# Altium integrated library TI_Logic_Specialty_Logic.IntLib: 2504 symbols (part 31 of 81)
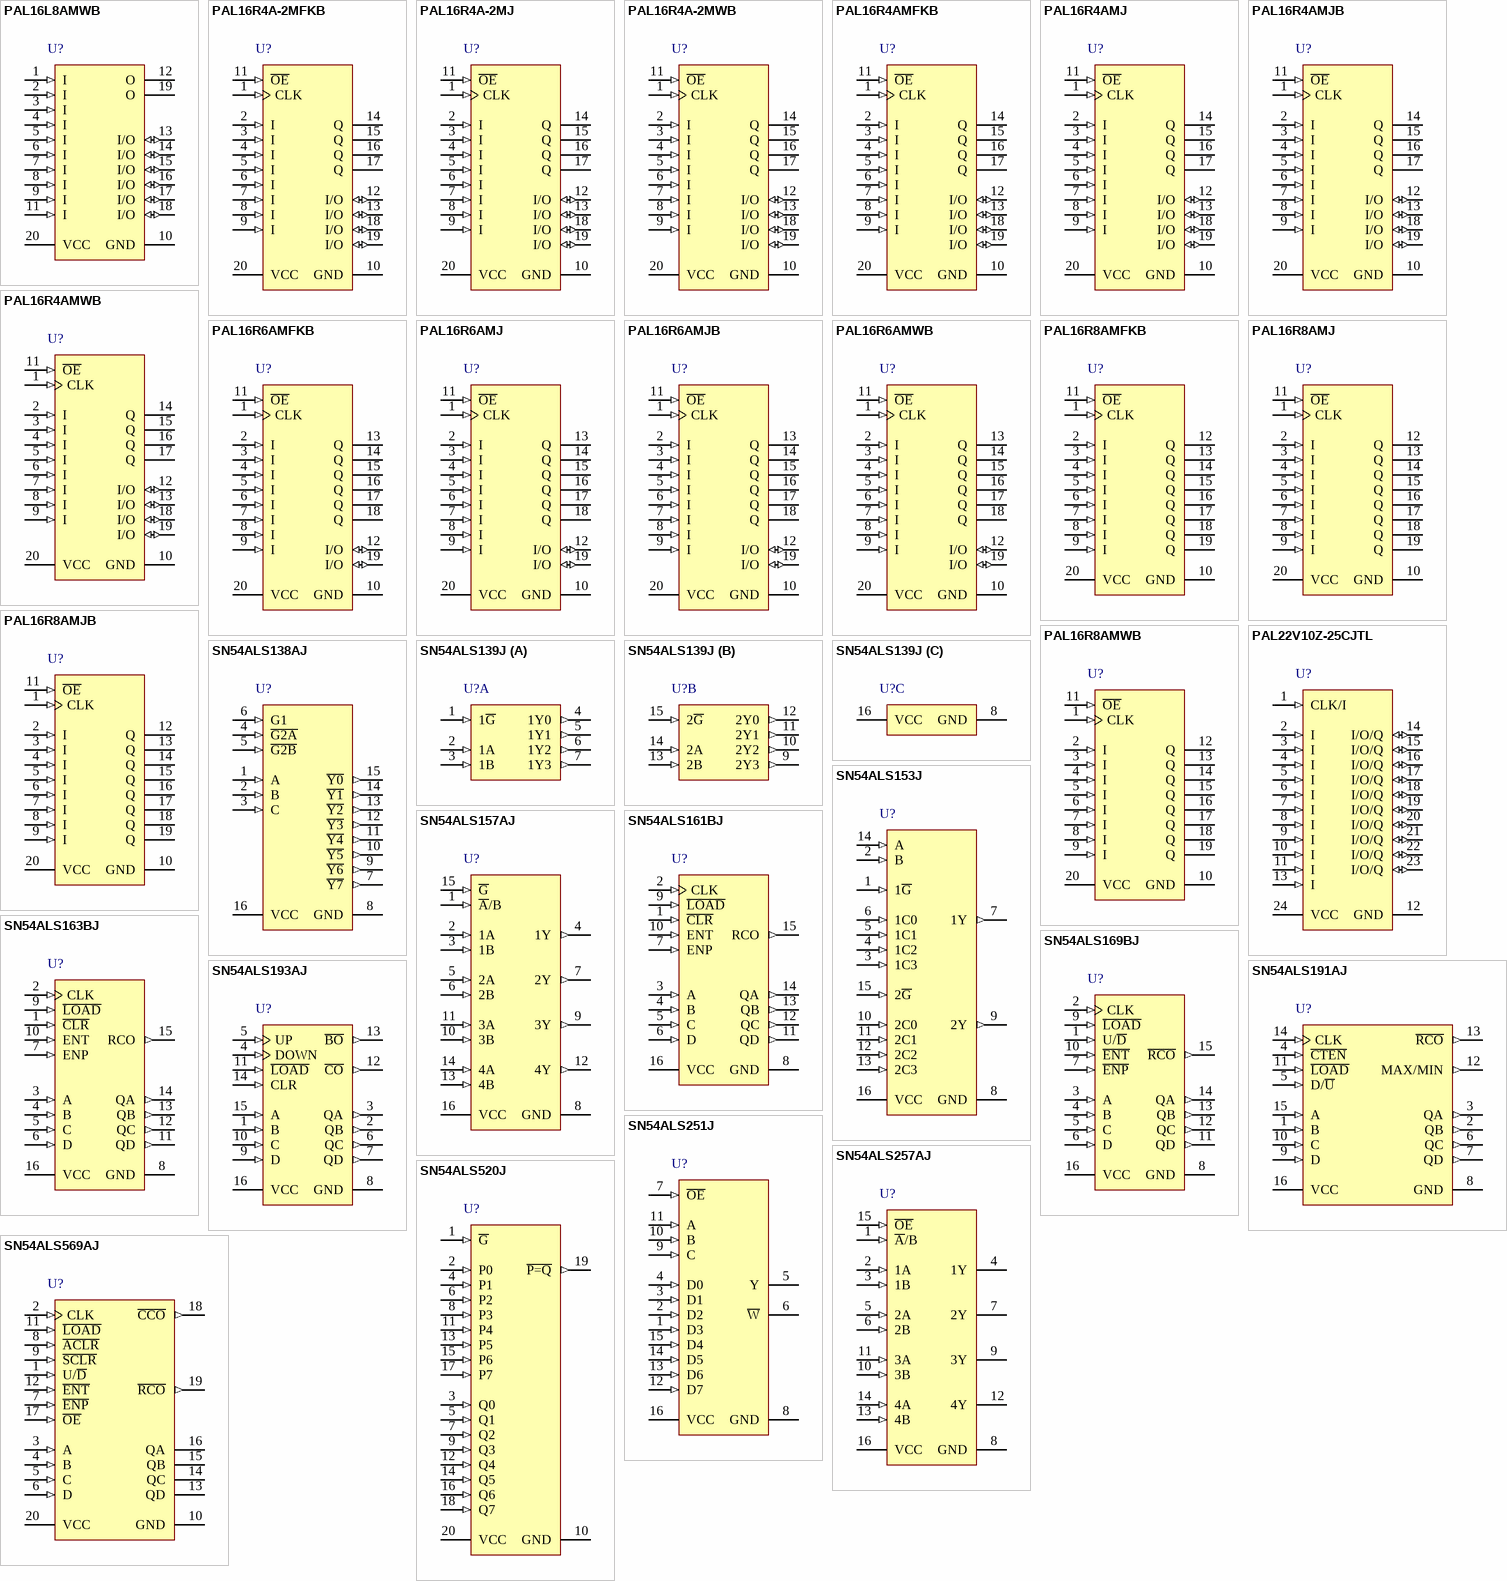
[diagram p134: symbols PAL16L8AMWB to SN54ALS569AJ]

## PAL16R4A-2MJ
designator U?
Standard High-Speed PAL<R> Circuits, J0020A, TUBE; Generic Part Number: PAL16R4A-2M; Manufacturer: Texas Instruments; PartNumber: PAL16R4A-2MJ; Voltage Node(Nom)(V): 5; Rating: Military; DatasheetVersion: SRPS016; PackageReference: J0020A; Operating Temperature Range(C): -55 to 125; ComponentLink1Description: Manufacturer URL; ComponentLink1URL: http://www.ti.com/; ComponentLink2Description: Datasheet; ComponentLink2URL: http://www.ti.com/lit/ds/symlink/pal16r4a-2m.pdf
footprint J0020A (DIP, 20-Leads, Body 26.9x7.2mm, Pitch 2.54mm)
pins: 1 CLK (in), 2 I (in), 3 I (in), 4 I (in), 5 I (in), 6 I (in), 7 I (in), 8 I (in), 9 I (in), 10 GND (power), 11 ~{OE} (in), 12 I/O (io), 13 I/O (io), 14 Q (hiz), 15 Q (hiz), 16 Q (hiz), 17 Q (hiz), 18 I/O (io), 19 I/O (io), 20 VCC (power)

## PAL16R4A-2MWB
designator U?
Standard High-Speed PAL<R> Circuits, W0020A, TUBE; Generic Part Number: PAL16R4A-2M; Manufacturer: Texas Instruments; PartNumber: PAL16R4A-2MWB; Voltage Node(Nom)(V): 5; Rating: Military; DatasheetVersion: SRPS016; PackageReference: W0020A; Operating Temperature Range(C): -55 to 125; ComponentLink1Description: Manufacturer URL; ComponentLink1URL: http://www.ti.com/; ComponentLink2Description: Datasheet; ComponentLink2URL: http://www.ti.com/lit/ds/symlink/pal16r4a-2m.pdf
footprint W0020A_N (CFP, 20-Leads, Body 13.72x7.62mm, Pitch 1.27mm, IPC Medium Density)
footprint W0020A_M (CFP, 20-Leads, Body 13.72x7.62mm, Pitch 1.27mm, IPC Low Density)
footprint W0020A_L (CFP, 20-Leads, Body 13.72x7.62mm, Pitch 1.27mm, IPC High Density)
pins: 1 CLK (in), 2 I (in), 3 I (in), 4 I (in), 5 I (in), 6 I (in), 7 I (in), 8 I (in), 9 I (in), 10 GND (power), 11 ~{OE} (in), 12 I/O (io), 13 I/O (io), 14 Q (hiz), 15 Q (hiz), 16 Q (hiz), 17 Q (hiz), 18 I/O (io), 19 I/O (io), 20 VCC (power)

## PAL16R4AMFKB
designator U?
Standard High-Speed PAL<R> Circuits, FK0020A, TUBE; Generic Part Number: PAL16R4AM; Manufacturer: Texas Instruments; PartNumber: PAL16R4AMFKB; Voltage Node(Nom)(V): 5; Rating: Military; DatasheetVersion: SRPS016; PackageReference: FK0020A; Operating Temperature Range(C): -55 to 125; Code_JEDEC: MS-004; ComponentLink1Description: Manufacturer URL; ComponentLink1URL: http://www.ti.com/; ComponentLink2Description: Datasheet; ComponentLink2URL: http://www.ti.com/lit/ds/symlink/pal16r4am.pdf; ComponentLink3Description: Package Specification; ComponentLink3URL: http://www.ti.com/lit/ml/mlcc006d/mlcc006d.pdf
footprint FK0020A_N (LCC, 20-Leads, Body 8.9x8.9mm, Pitch 1.27mm, IPC Medium Density)
footprint FK0020A_M (LCC, 20-Leads, Body 8.9x8.9mm, Pitch 1.27mm, IPC Low Density)
footprint FK0020A_L (LCC, 20-Leads, Body 8.9x8.9mm, Pitch 1.27mm, IPC High Density)
pins: 1 CLK (in), 2 I (in), 3 I (in), 4 I (in), 5 I (in), 6 I (in), 7 I (in), 8 I (in), 9 I (in), 10 GND (power), 11 ~{OE} (in), 12 I/O (io), 13 I/O (io), 14 Q (hiz), 15 Q (hiz), 16 Q (hiz), 17 Q (hiz), 18 I/O (io), 19 I/O (io), 20 VCC (power)

## PAL16R4AMJ
designator U?
Standard High-Speed PAL<R> Circuits, J0020A, TUBE; Generic Part Number: PAL16R4AM; Manufacturer: Texas Instruments; PartNumber: PAL16R4AMJ; Voltage Node(Nom)(V): 5; Rating: Military; DatasheetVersion: SRPS016; PackageReference: J0020A; Operating Temperature Range(C): -55 to 125; ComponentLink1Description: Manufacturer URL; ComponentLink1URL: http://www.ti.com/; ComponentLink2Description: Datasheet; ComponentLink2URL: http://www.ti.com/lit/ds/symlink/pal16r4am.pdf
footprint J0020A (DIP, 20-Leads, Body 26.9x7.2mm, Pitch 2.54mm)
pins: 1 CLK (in), 2 I (in), 3 I (in), 4 I (in), 5 I (in), 6 I (in), 7 I (in), 8 I (in), 9 I (in), 10 GND (power), 11 ~{OE} (in), 12 I/O (io), 13 I/O (io), 14 Q (hiz), 15 Q (hiz), 16 Q (hiz), 17 Q (hiz), 18 I/O (io), 19 I/O (io), 20 VCC (power)

## PAL16R4AMJB
designator U?
Standard High-Speed PAL<R> Circuits, J0020A, TUBE; Generic Part Number: PAL16R4AM; Manufacturer: Texas Instruments; PartNumber: PAL16R4AMJB; Voltage Node(Nom)(V): 5; Rating: Military; DatasheetVersion: SRPS016; PackageReference: J0020A; Operating Temperature Range(C): -55 to 125; ComponentLink1Description: Manufacturer URL; ComponentLink1URL: http://www.ti.com/; ComponentLink2Description: Datasheet; ComponentLink2URL: http://www.ti.com/lit/ds/symlink/pal16r4am.pdf
footprint J0020A (DIP, 20-Leads, Body 26.9x7.2mm, Pitch 2.54mm)
pins: 1 CLK (in), 2 I (in), 3 I (in), 4 I (in), 5 I (in), 6 I (in), 7 I (in), 8 I (in), 9 I (in), 10 GND (power), 11 ~{OE} (in), 12 I/O (io), 13 I/O (io), 14 Q (hiz), 15 Q (hiz), 16 Q (hiz), 17 Q (hiz), 18 I/O (io), 19 I/O (io), 20 VCC (power)

## PAL16R4AMWB
designator U?
Standard High-Speed PAL<R> Circuits, W0020A, TUBE; Generic Part Number: PAL16R4AM; Manufacturer: Texas Instruments; PartNumber: PAL16R4AMWB; Voltage Node(Nom)(V): 5; Rating: Military; DatasheetVersion: SRPS016; PackageReference: W0020A; Operating Temperature Range(C): -55 to 125; ComponentLink1Description: Manufacturer URL; ComponentLink1URL: http://www.ti.com/; ComponentLink2Description: Datasheet; ComponentLink2URL: http://www.ti.com/lit/ds/symlink/pal16r4am.pdf
footprint W0020A_N (CFP, 20-Leads, Body 13.72x7.62mm, Pitch 1.27mm, IPC Medium Density)
footprint W0020A_M (CFP, 20-Leads, Body 13.72x7.62mm, Pitch 1.27mm, IPC Low Density)
footprint W0020A_L (CFP, 20-Leads, Body 13.72x7.62mm, Pitch 1.27mm, IPC High Density)
pins: 1 CLK (in), 2 I (in), 3 I (in), 4 I (in), 5 I (in), 6 I (in), 7 I (in), 8 I (in), 9 I (in), 10 GND (power), 11 ~{OE} (in), 12 I/O (io), 13 I/O (io), 14 Q (hiz), 15 Q (hiz), 16 Q (hiz), 17 Q (hiz), 18 I/O (io), 19 I/O (io), 20 VCC (power)

## PAL16R6AMFKB
designator U?
Standard High-Speed PAL<R> Circuits, FK0020A, TUBE; Generic Part Number: PAL16R6AM; Manufacturer: Texas Instruments; PartNumber: PAL16R6AMFKB; Voltage Node(Nom)(V): 5; Rating: Military; DatasheetVersion: SRPS016; PackageReference: FK0020A; Operating Temperature Range(C): -55 to 125; Code_JEDEC: MS-004; ComponentLink1Description: Manufacturer URL; ComponentLink1URL: http://www.ti.com/; ComponentLink2Description: Datasheet; ComponentLink2URL: http://www.ti.com/lit/ds/symlink/pal16r6am.pdf; ComponentLink3Description: Package Specification; ComponentLink3URL: http://www.ti.com/lit/ml/mlcc006d/mlcc006d.pdf
footprint FK0020A_N (LCC, 20-Leads, Body 8.9x8.9mm, Pitch 1.27mm, IPC Medium Density)
footprint FK0020A_M (LCC, 20-Leads, Body 8.9x8.9mm, Pitch 1.27mm, IPC Low Density)
footprint FK0020A_L (LCC, 20-Leads, Body 8.9x8.9mm, Pitch 1.27mm, IPC High Density)
pins: 1 CLK (in), 2 I (in), 3 I (in), 4 I (in), 5 I (in), 6 I (in), 7 I (in), 8 I (in), 9 I (in), 10 GND (power), 11 ~{OE} (in), 12 I/O (io), 13 Q (hiz), 14 Q (hiz), 15 Q (hiz), 16 Q (hiz), 17 Q (hiz), 18 Q (hiz), 19 I/O (io), 20 VCC (power)

## PAL16R6AMJ
designator U?
Standard High-Speed PAL<R> Circuits, J0020A, TUBE; Generic Part Number: PAL16R6AM; Manufacturer: Texas Instruments; PartNumber: PAL16R6AMJ; Voltage Node(Nom)(V): 5; Rating: Military; DatasheetVersion: SRPS016; PackageReference: J0020A; Operating Temperature Range(C): -55 to 125; ComponentLink1Description: Manufacturer URL; ComponentLink1URL: http://www.ti.com/; ComponentLink2Description: Datasheet; ComponentLink2URL: http://www.ti.com/lit/ds/symlink/pal16r6am.pdf
footprint J0020A (DIP, 20-Leads, Body 26.9x7.2mm, Pitch 2.54mm)
pins: 1 CLK (in), 2 I (in), 3 I (in), 4 I (in), 5 I (in), 6 I (in), 7 I (in), 8 I (in), 9 I (in), 10 GND (power), 11 ~{OE} (in), 12 I/O (io), 13 Q (hiz), 14 Q (hiz), 15 Q (hiz), 16 Q (hiz), 17 Q (hiz), 18 Q (hiz), 19 I/O (io), 20 VCC (power)

## PAL16R6AMJB
designator U?
Standard High-Speed PAL<R> Circuits, J0020A, TUBE; Generic Part Number: PAL16R6AM; Manufacturer: Texas Instruments; PartNumber: PAL16R6AMJB; Voltage Node(Nom)(V): 5; Rating: Military; DatasheetVersion: SRPS016; PackageReference: J0020A; Operating Temperature Range(C): -55 to 125; ComponentLink1Description: Manufacturer URL; ComponentLink1URL: http://www.ti.com/; ComponentLink2Description: Datasheet; ComponentLink2URL: http://www.ti.com/lit/ds/symlink/pal16r6am.pdf
footprint J0020A (DIP, 20-Leads, Body 26.9x7.2mm, Pitch 2.54mm)
pins: 1 CLK (in), 2 I (in), 3 I (in), 4 I (in), 5 I (in), 6 I (in), 7 I (in), 8 I (in), 9 I (in), 10 GND (power), 11 ~{OE} (in), 12 I/O (io), 13 Q (hiz), 14 Q (hiz), 15 Q (hiz), 16 Q (hiz), 17 Q (hiz), 18 Q (hiz), 19 I/O (io), 20 VCC (power)

## PAL16R6AMWB
designator U?
Standard High-Speed PAL<R> Circuits, W0020A, TUBE; Generic Part Number: PAL16R6AM; Manufacturer: Texas Instruments; PartNumber: PAL16R6AMWB; Voltage Node(Nom)(V): 5; Rating: Military; DatasheetVersion: SRPS016; PackageReference: W0020A; Operating Temperature Range(C): -55 to 125; ComponentLink1Description: Manufacturer URL; ComponentLink1URL: http://www.ti.com/; ComponentLink2Description: Datasheet; ComponentLink2URL: http://www.ti.com/lit/ds/symlink/pal16r6am.pdf
footprint W0020A_N (CFP, 20-Leads, Body 13.72x7.62mm, Pitch 1.27mm, IPC Medium Density)
footprint W0020A_M (CFP, 20-Leads, Body 13.72x7.62mm, Pitch 1.27mm, IPC Low Density)
footprint W0020A_L (CFP, 20-Leads, Body 13.72x7.62mm, Pitch 1.27mm, IPC High Density)
pins: 1 CLK (in), 2 I (in), 3 I (in), 4 I (in), 5 I (in), 6 I (in), 7 I (in), 8 I (in), 9 I (in), 10 GND (power), 11 ~{OE} (in), 12 I/O (io), 13 Q (hiz), 14 Q (hiz), 15 Q (hiz), 16 Q (hiz), 17 Q (hiz), 18 Q (hiz), 19 I/O (io), 20 VCC (power)

## PAL16R8AMFKB
designator U?
Standard High-Speed PAL<R> Circuits, FK0020A, TUBE; Generic Part Number: PAL16R8AM; Manufacturer: Texas Instruments; PartNumber: PAL16R8AMFKB; Voltage Node(Nom)(V): 5; Rating: Military; DatasheetVersion: SRPS016; PackageReference: FK0020A; Operating Temperature Range(C): -55 to 125; Code_JEDEC: MS-004; ComponentLink1Description: Manufacturer URL; ComponentLink1URL: http://www.ti.com/; ComponentLink2Description: Datasheet; ComponentLink2URL: http://www.ti.com/lit/ds/symlink/pal16r8am.pdf; ComponentLink3Description: Package Specification; ComponentLink3URL: http://www.ti.com/lit/ml/mlcc006d/mlcc006d.pdf
footprint FK0020A_N (LCC, 20-Leads, Body 8.9x8.9mm, Pitch 1.27mm, IPC Medium Density)
footprint FK0020A_M (LCC, 20-Leads, Body 8.9x8.9mm, Pitch 1.27mm, IPC Low Density)
footprint FK0020A_L (LCC, 20-Leads, Body 8.9x8.9mm, Pitch 1.27mm, IPC High Density)
pins: 1 CLK (in), 2 I (in), 3 I (in), 4 I (in), 5 I (in), 6 I (in), 7 I (in), 8 I (in), 9 I (in), 10 GND (power), 11 ~{OE} (in), 12 Q (hiz), 13 Q (hiz), 14 Q (hiz), 15 Q (hiz), 16 Q (hiz), 17 Q (hiz), 18 Q (hiz), 19 Q (hiz), 20 VCC (power)

## PAL16R8AMJ
designator U?
Standard High-Speed PAL<R> Circuits, J0020A, TUBE; Generic Part Number: PAL16R8AM; Manufacturer: Texas Instruments; PartNumber: PAL16R8AMJ; Voltage Node(Nom)(V): 5; Rating: Military; DatasheetVersion: SRPS016; PackageReference: J0020A; Operating Temperature Range(C): -55 to 125; ComponentLink1Description: Manufacturer URL; ComponentLink1URL: http://www.ti.com/; ComponentLink2Description: Datasheet; ComponentLink2URL: http://www.ti.com/lit/ds/symlink/pal16r8am.pdf
footprint J0020A (DIP, 20-Leads, Body 26.9x7.2mm, Pitch 2.54mm)
pins: 1 CLK (in), 2 I (in), 3 I (in), 4 I (in), 5 I (in), 6 I (in), 7 I (in), 8 I (in), 9 I (in), 10 GND (power), 11 ~{OE} (in), 12 Q (hiz), 13 Q (hiz), 14 Q (hiz), 15 Q (hiz), 16 Q (hiz), 17 Q (hiz), 18 Q (hiz), 19 Q (hiz), 20 VCC (power)

## PAL16R8AMJB
designator U?
Standard High-Speed PAL<R> Circuits, J0020A, TUBE; Generic Part Number: PAL16R8AM; Manufacturer: Texas Instruments; PartNumber: PAL16R8AMJB; Voltage Node(Nom)(V): 5; Rating: Military; DatasheetVersion: SRPS016; PackageReference: J0020A; Operating Temperature Range(C): -55 to 125; ComponentLink1Description: Manufacturer URL; ComponentLink1URL: http://www.ti.com/; ComponentLink2Description: Datasheet; ComponentLink2URL: http://www.ti.com/lit/ds/symlink/pal16r8am.pdf
footprint J0020A (DIP, 20-Leads, Body 26.9x7.2mm, Pitch 2.54mm)
pins: 1 CLK (in), 2 I (in), 3 I (in), 4 I (in), 5 I (in), 6 I (in), 7 I (in), 8 I (in), 9 I (in), 10 GND (power), 11 ~{OE} (in), 12 Q (hiz), 13 Q (hiz), 14 Q (hiz), 15 Q (hiz), 16 Q (hiz), 17 Q (hiz), 18 Q (hiz), 19 Q (hiz), 20 VCC (power)

## PAL16R8AMWB
designator U?
Standard High-Speed PAL<R> Circuits, W0020A, TUBE; Generic Part Number: PAL16R8AM; Manufacturer: Texas Instruments; PartNumber: PAL16R8AMWB; Voltage Node(Nom)(V): 5; Rating: Military; DatasheetVersion: SRPS016; PackageReference: W0020A; Operating Temperature Range(C): -55 to 125; ComponentLink1Description: Manufacturer URL; ComponentLink1URL: http://www.ti.com/; ComponentLink2Description: Datasheet; ComponentLink2URL: http://www.ti.com/lit/ds/symlink/pal16r8am.pdf
footprint W0020A_N (CFP, 20-Leads, Body 13.72x7.62mm, Pitch 1.27mm, IPC Medium Density)
footprint W0020A_M (CFP, 20-Leads, Body 13.72x7.62mm, Pitch 1.27mm, IPC Low Density)
footprint W0020A_L (CFP, 20-Leads, Body 13.72x7.62mm, Pitch 1.27mm, IPC High Density)
pins: 1 CLK (in), 2 I (in), 3 I (in), 4 I (in), 5 I (in), 6 I (in), 7 I (in), 8 I (in), 9 I (in), 10 GND (power), 11 ~{OE} (in), 12 Q (hiz), 13 Q (hiz), 14 Q (hiz), 15 Q (hiz), 16 Q (hiz), 17 Q (hiz), 18 Q (hiz), 19 Q (hiz), 20 VCC (power)

## PAL22V10Z-25CJTL
designator U?
EPIC<TM> CMOS Programmable Array Logic Circuits, JT0024A, TUBE; Generic Part Number: TICPAL22V10Z-25C; Manufacturer: Texas Instruments; PartNumber: PAL22V10Z-25CJTL; Rating: Catalog; DatasheetVersion: SRPS007D; PackageReference: JT0024A; Supplier 1: Mouser; Supplier Part Number 1: 595-PAL22V10Z-25CJTL; Supplier 2: Digi-Key; Supplier Part Number 2: PAL22V10Z-25CJTL-ND; Operating Temperature Range(C): 0 to 75; ComponentLink1Description: Manufacturer URL; ComponentLink1URL: http://www.ti.com/; ComponentLink2Description: Datasheet; ComponentLink2URL: http://www.ti.com/lit/ds/symlink/ticpal22v10z-25c.pdf
footprint JT0024A (DIP, 24-Leads, Body 7.2x32.5mm, Pitch 2.54mm)
pins: 1 CLK/I (in), 2 I (in), 3 I (in), 4 I (in), 5 I (in), 6 I (in), 7 I (in), 8 I (in), 9 I (in), 10 I (in), 11 I (in), 12 GND (power), 13 I (in), 14 I/O/Q (io), 15 I/O/Q (io), 16 I/O/Q (io), 17 I/O/Q (io), 18 I/O/Q (io), 19 I/O/Q (io), 20 I/O/Q (io), 21 I/O/Q (io), 22 I/O/Q (io), 23 I/O/Q (io), 24 VCC (power)

## SN54ALS138AJ
designator U?
3-Line To 8-Line Decoders/Demultiplexers, J0016A, TUBE; Generic Part Number: SN54ALS138A; Manufacturer: Texas Instruments; PartNumber: SN54ALS138AJ; VCC(Min)(V): 4.5; VCC(Max)(V): 5.5; Rating: Military; Technology Family: ALS; Schmitt Trigger: No; DatasheetVersion: SDAS055E; PackageReference: J0016A; Operating Temperature Range(C): -55 to 125; ComponentLink1Description: Manufacturer URL; ComponentLink1URL: http://www.ti.com/; ComponentLink2Description: Datasheet; ComponentLink2URL: http://www.ti.com/lit/ds/symlink/sn54als138a.pdf; ComponentLink3Description: Package Specification; ComponentLink3URL: http://www.ti.com/lit/ml/mcer002d/mcer002d.pdf
footprint J0016A (DIP, 16-Leads, Body 21.35x7.2mm, Pitch 2.54mm)
pins: 1 A (in), 2 B (in), 3 C (in), 4 ~{G2A} (in), 5 ~{G2B} (in), 6 G1 (in), 7 ~{Y7} (out), 8 GND (power), 9 ~{Y6} (out), 10 ~{Y5} (out), 11 ~{Y4} (out), 12 ~{Y3} (out), 13 ~{Y2} (out), 14 ~{Y1} (out), 15 ~{Y0} (out), 16 VCC (power)

## SN54ALS139J
designator U?
Dual 2-Line To 4-Line Decoders/Demultiplexers, J0016A, TUBE; Generic Part Number: SN54ALS139; Manufacturer: Texas Instruments; PartNumber: SN54ALS139J; VCC(Min)(V): 4.5; VCC(Max)(V): 5.5; Rating: Military; Technology Family: ALS; Schmitt Trigger: No; DatasheetVersion: SDAS204A; PackageReference: J0016A; Operating Temperature Range(C): -55 to 125; ComponentLink1Description: Manufacturer URL; ComponentLink1URL: http://www.ti.com/; ComponentLink2Description: Datasheet; ComponentLink2URL: http://www.ti.com/lit/ds/symlink/sn54als139.pdf; ComponentLink3Description: Package Specification; ComponentLink3URL: http://www.ti.com/lit/ml/mcer002d/mcer002d.pdf
footprint J0016A (DIP, 16-Leads, Body 21.35x7.2mm, Pitch 2.54mm)
part A pins: 1 1~{G} (in), 2 1A (in), 3 1B (in), 4 1Y0 (out), 5 1Y1 (out), 6 1Y2 (out), 7 1Y3 (out)
part B pins: 9 2Y3 (out), 10 2Y2 (out), 11 2Y1 (out), 12 2Y0 (out), 13 2B (in), 14 2A (in), 15 2~{G} (in)
part C pins: 8 GND (power), 16 VCC (power)

## SN54ALS153J
designator U?
Dual 1-Of-4 Data Selectors/Multiplexers, J0016A, TUBE; Generic Part Number: SN54ALS153; Manufacturer: Texas Instruments; PartNumber: SN54ALS153J; VCC(Min)(V): 4.5; VCC(Max)(V): 5.5; Rating: Military; Technology Family: ALS; Schmitt Trigger: No; DatasheetVersion: SDAS206A; PackageReference: J0016A; Operating Temperature Range(C): -55 to 125; ComponentLink1Description: Manufacturer URL; ComponentLink1URL: http://www.ti.com/; ComponentLink2Description: Datasheet; ComponentLink2URL: http://www.ti.com/lit/ds/symlink/sn54als153.pdf; ComponentLink3Description: Package Specification; ComponentLink3URL: http://www.ti.com/lit/ml/mcer002d/mcer002d.pdf
footprint J0016A (DIP, 16-Leads, Body 21.35x7.2mm, Pitch 2.54mm)
pins: 1 1~{G} (in), 2 B (in), 3 1C3 (in), 4 1C2 (in), 5 1C1 (in), 6 1C0 (in), 7 1Y (out), 8 GND (power), 9 2Y (out), 10 2C0 (in), 11 2C1 (in), 12 2C2 (in), 13 2C3 (in), 14 A (in), 15 2~{G} (in), 16 VCC (power)

## SN54ALS157AJ
designator U?
Quadruple 1-Of-2 Data Selectors/Multiplexers, J0016A, TUBE; Generic Part Number: SN54ALS157A; Manufacturer: Texas Instruments; PartNumber: SN54ALS157AJ; VCC(Min)(V): 4.5; VCC(Max)(V): 5.5; Rating: Military; Technology Family: ALS; Schmitt Trigger: No; DatasheetVersion: SDAS081C; PackageReference: J0016A; Operating Temperature Range(C): -55 to 125; ComponentLink1Description: Manufacturer URL; ComponentLink1URL: http://www.ti.com/; ComponentLink2Description: Datasheet; ComponentLink2URL: http://www.ti.com/lit/ds/symlink/sn54als157a.pdf; ComponentLink3Description: Package Specification; ComponentLink3URL: http://www.ti.com/lit/ml/mcer002d/mcer002d.pdf
footprint J0016A (DIP, 16-Leads, Body 21.35x7.2mm, Pitch 2.54mm)
pins: 1 ~{A}/B (in), 2 1A (in), 3 1B (in), 4 1Y (out), 5 2A (in), 6 2B (in), 7 2Y (out), 8 GND (power), 9 3Y (out), 10 3B (in), 11 3A (in), 12 4Y (out), 13 4B (in), 14 4A (in), 15 ~{G} (in), 16 VCC (power)

## SN54ALS161BJ
designator U?
Synchronous 4-Bit Binary Counters, J0016A, TUBE; Generic Part Number: SN54ALS161B; Manufacturer: Texas Instruments; PartNumber: SN54ALS161BJ; VCC(Min)(V): 4.5; VCC(Max)(V): 5.5; Inputs: 1; ICC @ Nom Voltage(Max)(mA): 21; Bits(#): 4; F @ Nom Voltage(Max)(Mhz): 75; Rating: Military; Technology Family: ALS; Output Drive (IOL/IOH)(Max)(mA): 8/-0.4; tpd @ Nom Voltage(Max)(ns): 20; DatasheetVersion: SDAS276A; PackageReference: J0016A; Function: Counter; Operating Temperature Range(C): -55 to 125; Type: Binary; ComponentLink1Description: Manufacturer URL; ComponentLink1URL: http://www.ti.com/; ComponentLink2Description: Datasheet; ComponentLink2URL: http://www.ti.com/lit/ds/symlink/sn54als161b.pdf; ComponentLink3Description: Package Specification; ComponentLink3URL: http://www.ti.com/lit/ml/mcer002d/mcer002d.pdf
footprint J0016A (DIP, 16-Leads, Body 21.35x7.2mm, Pitch 2.54mm)
pins: 1 ~{CLR} (in), 2 CLK (in), 3 A (in), 4 B (in), 5 C (in), 6 D (in), 7 ENP (in), 8 GND (power), 9 ~{LOAD} (in), 10 ENT (in), 11 QD (out), 12 QC (out), 13 QB (out), 14 QA (out), 15 RCO (out), 16 VCC (power)

## SN54ALS163BJ
designator U?
Synchronous 4-Bit Binary Counters, J0016A, TUBE; Generic Part Number: SN54ALS163B; Manufacturer: Texas Instruments; PartNumber: SN54ALS163BJ; VCC(Min)(V): 4.5; VCC(Max)(V): 5.5; Inputs: 1; ICC @ Nom Voltage(Max)(mA): 21; Bits(#): 4; F @ Nom Voltage(Max)(Mhz): 75; Rating: Military; Technology Family: ALS; Output Drive (IOL/IOH)(Max)(mA): 8/-0.4; tpd @ Nom Voltage(Max)(ns): 20; DatasheetVersion: SDAS276A; PackageReference: J0016A; Function: Counter; Operating Temperature Range(C): -55 to 125; Type: Binary; ComponentLink1Description: Manufacturer URL; ComponentLink1URL: http://www.ti.com/; ComponentLink2Description: Datasheet; ComponentLink2URL: http://www.ti.com/lit/ds/symlink/sn54als163b.pdf; ComponentLink3Description: Package Specification; ComponentLink3URL: http://www.ti.com/lit/ml/mcer002d/mcer002d.pdf
footprint J0016A (DIP, 16-Leads, Body 21.35x7.2mm, Pitch 2.54mm)
pins: 1 ~{CLR} (in), 2 CLK (in), 3 A (in), 4 B (in), 5 C (in), 6 D (in), 7 ENP (in), 8 GND (power), 9 ~{LOAD} (in), 10 ENT (in), 11 QD (out), 12 QC (out), 13 QB (out), 14 QA (out), 15 RCO (out), 16 VCC (power)

## SN54ALS169BJ
designator U?
Synchronous 4-Bit Up/Down Binary Counters, J0016A, TUBE; Generic Part Number: SN54ALS169B; Manufacturer: Texas Instruments; PartNumber: SN54ALS169BJ; VCC(Min)(V): 4.5; VCC(Max)(V): 5.5; Inputs: 1; ICC @ Nom Voltage(Max)(mA): 25; Bits(#): 4; F @ Nom Voltage(Max)(Mhz): 75; Rating: Military; Technology Family: ALS; Output Drive (IOL/IOH)(Max)(mA): 8/-0.4; tpd @ Nom Voltage(Max)(ns): 20; DatasheetVersion: SDAS125B; PackageReference: J0016A; Function: Counter; Operating Temperature Range(C): -55 to 125; Type: Binary; ComponentLink1Description: Manufacturer URL; ComponentLink1URL: http://www.ti.com/; ComponentLink2Description: Datasheet; ComponentLink2URL: http://www.ti.com/lit/ds/symlink/sn54als169b.pdf; ComponentLink3Description: Package Specification; ComponentLink3URL: http://www.ti.com/lit/ml/mcer002d/mcer002d.pdf
footprint J0016A (DIP, 16-Leads, Body 21.35x7.2mm, Pitch 2.54mm)
pins: 1 U/~{D} (in), 2 CLK (in), 3 A (in), 4 B (in), 5 C (in), 6 D (in), 7 ~{ENP} (in), 8 GND (power), 9 ~{LOAD} (in), 10 ~{ENT} (in), 11 QD (out), 12 QC (out), 13 QB (out), 14 QA (out), 15 ~{RCO} (out), 16 VCC (power)

## SN54ALS191AJ
designator U?
Synchronous 4-Bit Up/Down Binary Counter, J0016A, TUBE; Generic Part Number: SN54ALS191A; Manufacturer: Texas Instruments; PartNumber: SN54ALS191AJ; VCC(Min)(V): 4.5; VCC(Max)(V): 5.5; Inputs: 1; ICC @ Nom Voltage(Max)(mA): 22; Bits(#): 4; F @ Nom Voltage(Max)(Mhz): 75; Rating: Military; Technology Family: ALS; Output Drive (IOL/IOH)(Max)(mA): 8/-0.4; tpd @ Nom Voltage(Max)(ns): 31; DatasheetVersion: SDAS210C; PackageReference: J0016A; Function: Counter; Operating Temperature Range(C): -55 to 125; Type: Binary; ComponentLink1Description: Manufacturer URL; ComponentLink1URL: http://www.ti.com/; ComponentLink2Description: Datasheet; ComponentLink2URL: http://www.ti.com/lit/ds/symlink/sn54als191a.pdf; ComponentLink3Description: Package Specification; ComponentLink3URL: http://www.ti.com/lit/ml/mcer002d/mcer002d.pdf
footprint J0016A (DIP, 16-Leads, Body 21.35x7.2mm, Pitch 2.54mm)
pins: 1 B (in), 2 QB (out), 3 QA (out), 4 ~{CTEN} (in), 5 D/~{U} (in), 6 QC (out), 7 QD (out), 8 GND (power), 9 D (in), 10 C (in), 11 ~{LOAD} (in), 12 MAX/MIN (out), 13 ~{RCO} (out), 14 CLK (in), 15 A (in), 16 VCC (power)

## SN54ALS193AJ
designator U?
Synchronous 4-Bit Up/Down Binary Counters  With Dual Clock, J0016A, TUBE; Generic Part Number: SN54ALS193A; Manufacturer: Texas Instruments; PartNumber: SN54ALS193AJ; VCC(Min)(V): 4.5; VCC(Max)(V): 5.5; Inputs: 1; ICC @ Nom Voltage(Max)(mA): 22; Bits(#): 4; F @ Nom Voltage(Max)(Mhz): 75; Rating: Military; Technology Family: ALS; Output Drive (IOL/IOH)(Max)(mA): 8/-0.4; tpd @ Nom Voltage(Max)(ns): 30; DatasheetVersion: SDAS211C; PackageReference: J0016A; Function: Counter; Operating Temperature Range(C): -55 to 125; Type: Binary; ComponentLink1Description: Manufacturer URL; ComponentLink1URL: http://www.ti.com/; ComponentLink2Description: Datasheet; ComponentLink2URL: http://www.ti.com/lit/ds/symlink/sn54als193a.pdf; ComponentLink3Description: Package Specification; ComponentLink3URL: http://www.ti.com/lit/ml/mcer002d/mcer002d.pdf
footprint J0016A (DIP, 16-Leads, Body 21.35x7.2mm, Pitch 2.54mm)
pins: 1 B (in), 2 QB (out), 3 QA (out), 4 DOWN (in), 5 UP (in), 6 QC (out), 7 QD (out), 8 GND (power), 9 D (in), 10 C (in), 11 ~{LOAD} (in), 12 ~{CO} (out), 13 ~{BO} (out), 14 CLR (in), 15 A (in), 16 VCC (power)

## SN54ALS251J
designator U?
1-Of-8 Data Selectors/Multiplexers With 3-State Outputs, J0016A, TUBE; Generic Part Number: SN54ALS251; Manufacturer: Texas Instruments; PartNumber: SN54ALS251J; VCC(Min)(V): 4.5; VCC(Max)(V): 5.5; Rating: Military; Technology Family: ALS; Schmitt Trigger: No; DatasheetVersion: SDAS215A; PackageReference: J0016A; Operating Temperature Range(C): -55 to 125; ComponentLink1Description: Manufacturer URL; ComponentLink1URL: http://www.ti.com/; ComponentLink2Description: Datasheet; ComponentLink2URL: http://www.ti.com/lit/ds/symlink/sn54als251.pdf; ComponentLink3Description: Package Specification; ComponentLink3URL: http://www.ti.com/lit/ml/mcer002d/mcer002d.pdf
footprint J0016A (DIP, 16-Leads, Body 21.35x7.2mm, Pitch 2.54mm)
pins: 1 D3 (in), 2 D2 (in), 3 D1 (in), 4 D0 (in), 5 Y (hiz), 6 ~{W} (hiz), 7 ~{OE} (in), 8 GND (power), 9 C (in), 10 B (in), 11 A (in), 12 D7 (in), 13 D6 (in), 14 D5 (in), 15 D4 (in), 16 VCC (power)

## SN54ALS257AJ
designator U?
Quad 2-Line To 1-Line Data Selectors/Multiplexers With 3-State, J0016A, TUBE; Generic Part Number: SN54ALS257A; Manufacturer: Texas Instruments; PartNumber: SN54ALS257AJ; VCC(Min)(V): 4.5; VCC(Max)(V): 5.5; Rating: Military; Technology Family: ALS; Schmitt Trigger: No; DatasheetVersion: SDAS124C; PackageReference: J0016A; Operating Temperature Range(C): -55 to 125; ComponentLink1Description: Manufacturer URL; ComponentLink1URL: http://www.ti.com/; ComponentLink2Description: Datasheet; ComponentLink2URL: http://www.ti.com/lit/ds/symlink/sn54als257a.pdf; ComponentLink3Description: Package Specification; ComponentLink3URL: http://www.ti.com/lit/ml/mcer002d/mcer002d.pdf
footprint J0016A (DIP, 16-Leads, Body 21.35x7.2mm, Pitch 2.54mm)
pins: 1 ~{A}/B (in), 2 1A (in), 3 1B (in), 4 1Y (hiz), 5 2A (in), 6 2B (in), 7 2Y (hiz), 8 GND (power), 9 3Y (hiz), 10 3B (in), 11 3A (in), 12 4Y (hiz), 13 4B (in), 14 4A (in), 15 ~{OE} (in), 16 VCC (power)

## SN54ALS520J
designator U?
8-Bit Identity/Magnitude Comparators (P=Q) with Enable and 20K Ohm Q-Input Pullup Resistors, J0020A, TUBE; Generic Part Number: SN54ALS520; Manufacturer: Texas Instruments; PartNumber: SN54ALS520J; VCC(Min)(V): 4.5; VCC(Max)(V): 5.5; Output Type: TTL; Bits(#): 8; Rating: Military; Technology Family: ALS; DatasheetVersion: SDAS224B; PackageReference: J0020A; Input Type: TTL; Operating Temperature Range(C): -55 to 125; ComponentLink1Description: Manufacturer URL; ComponentLink1URL: http://www.ti.com/; ComponentLink2Description: Datasheet; ComponentLink2URL: http://www.ti.com/lit/ds/symlink/sn54als520.pdf
footprint J0020A (DIP, 20-Leads, Body 26.9x7.2mm, Pitch 2.54mm)
pins: 1 ~{G} (in), 2 P0 (in), 3 Q0 (in), 4 P1 (in), 5 Q1 (in), 6 P2 (in), 7 Q2 (in), 8 P3 (in), 9 Q3 (in), 10 GND (power), 11 P4 (in), 12 Q4 (in), 13 P5 (in), 14 Q5 (in), 15 P6 (in), 16 Q6 (in), 17 P7 (in), 18 Q7 (in), 19 ~{P=Q} (out), 20 VCC (power)

## SN54ALS569AJ
designator U?
Synchronous 4-Bit Up/Down Binary Counters With 3-State Outputs, J0020A, TUBE; Generic Part Number: SN54ALS569A; Manufacturer: Texas Instruments; PartNumber: SN54ALS569AJ; VCC(Min)(V): 4.5; VCC(Max)(V): 5.5; Inputs: 1; ICC @ Nom Voltage(Max)(mA): 32; Bits(#): 4; F @ Nom Voltage(Max)(Mhz): 75; Rating: Military; Technology Family: ALS; Output Drive (IOL/IOH)(Max)(mA): 24/-2.6; tpd @ Nom Voltage(Max)(ns): 28; DatasheetVersion: SDAS229A; PackageReference: J0020A; Function: Counter; Operating Temperature Range(C): -55 to 125; Type: Binary; ComponentLink1Description: Manufacturer URL; ComponentLink1URL: http://www.ti.com/; ComponentLink2Description: Datasheet; ComponentLink2URL: http://www.ti.com/lit/ds/symlink/sn54als569a.pdf; ComponentLink3Description: Package Specification; ComponentLink3URL: http://www.ti.com/lit/ml/mcer002d/mcer002d.pdf
footprint J0020A (DIP, 20-Leads, Body 26.9x7.2mm, Pitch 2.54mm)
pins: 1 U/~{D} (in), 2 CLK (in), 3 A (in), 4 B (in), 5 C (in), 6 D (in), 7 ~{ENP} (in), 8 ~{ACLR} (in), 9 ~{SCLR} (in), 10 GND (power), 11 ~{LOAD} (in), 12 ~{ENT} (in), 13 QD (hiz), 14 QC (hiz), 15 QB (hiz), 16 QA (hiz), 17 ~{OE} (in), 18 ~{CCO} (out), 19 ~{RCO} (out), 20 VCC (power)

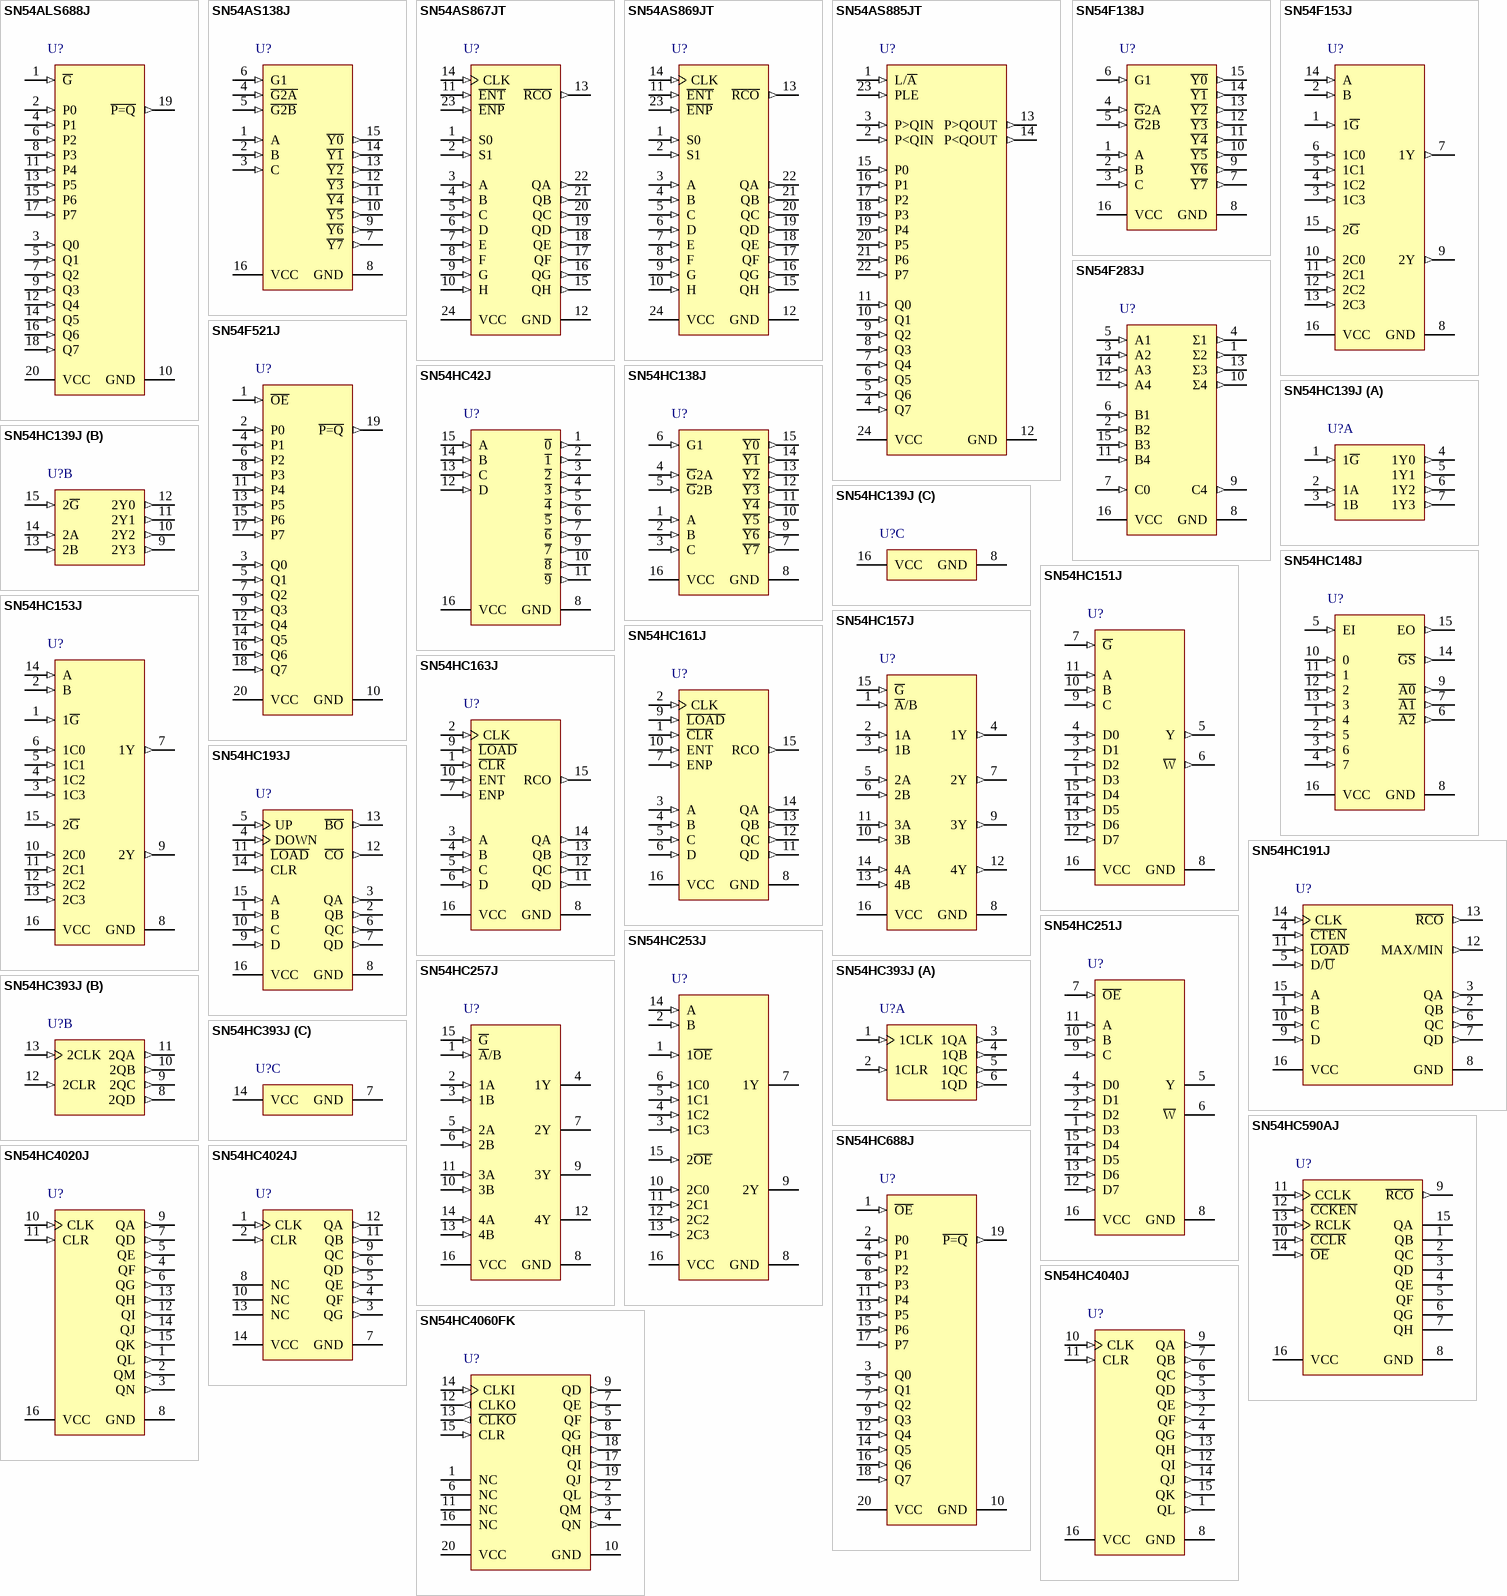
[diagram p43: symbols SN54ALS688J to SN54HC4060FK]

## SN54ALS688J
designator U?
8-Bit Identity/Magnitude Comparators (P=Q) with Enable, J0020A, TUBE; Generic Part Number: SN54ALS688; Manufacturer: Texas Instruments; PartNumber: SN54ALS688J; VCC(Min)(V): 4.5; VCC(Max)(V): 5.5; Output Type: TTL; ICC @ Nom Voltage(Max)(mA): 19; Bits(#): 8; Rating: Military; Technology Family: ALS; Output Drive (IOL/IOH)(Max)(mA): 24/-2.6; tpd @ Nom Voltage(Max)(ns): 22; DatasheetVersion: SDAS228A; PackageReference: J0020A; Input Type: TTL; Operating Temperature Range(C): -55 to 125; ComponentLink1Description: Manufacturer URL; ComponentLink1URL: http://www.ti.com/; ComponentLink2Description: Datasheet; ComponentLink2URL: http://www.ti.com/lit/ds/symlink/sn54als688.pdf
footprint J0020A (DIP, 20-Leads, Body 26.9x7.2mm, Pitch 2.54mm)
pins: 1 ~{G} (in), 2 P0 (in), 3 Q0 (in), 4 P1 (in), 5 Q1 (in), 6 P2 (in), 7 Q2 (in), 8 P3 (in), 9 Q3 (in), 10 GND (power), 11 P4 (in), 12 Q4 (in), 13 P5 (in), 14 Q5 (in), 15 P6 (in), 16 Q6 (in), 17 P7 (in), 18 Q7 (in), 19 ~{P=Q} (out), 20 VCC (power)

## SN54AS138J
designator U?
3-Line To 8-Line Decoders/Demultiplexers, J0016A, TUBE; Generic Part Number: SN54AS138; Manufacturer: Texas Instruments; PartNumber: SN54AS138J; VCC(Min)(V): 4.5; VCC(Max)(V): 5.5; Rating: Military; Technology Family: AS; Schmitt Trigger: No; DatasheetVersion: SDAS055E; PackageReference: J0016A; Operating Temperature Range(C): -55 to 125; ComponentLink1Description: Manufacturer URL; ComponentLink1URL: http://www.ti.com/; ComponentLink2Description: Datasheet; ComponentLink2URL: http://www.ti.com/lit/ds/symlink/sn54as138.pdf; ComponentLink3Description: Package Specification; ComponentLink3URL: http://www.ti.com/lit/ml/mcer002d/mcer002d.pdf
footprint J0016A (DIP, 16-Leads, Body 21.35x7.2mm, Pitch 2.54mm)
pins: 1 A (in), 2 B (in), 3 C (in), 4 ~{G2A} (in), 5 ~{G2B} (in), 6 G1 (in), 7 ~{Y7} (out), 8 GND (power), 9 ~{Y6} (out), 10 ~{Y5} (out), 11 ~{Y4} (out), 12 ~{Y3} (out), 13 ~{Y2} (out), 14 ~{Y1} (out), 15 ~{Y0} (out), 16 VCC (power)

## SN54AS867JT
designator U?
Synchronous 8-Bit Up/Down Counters, JT0024A, TUBE; Generic Part Number: SN54AS867; Manufacturer: Texas Instruments; PartNumber: SN54AS867JT; VCC(Min)(V): 4.5; VCC(Max)(V): 5.5; Inputs: 1; ICC @ Nom Voltage(Max)(mA): 195; Bits(#): 8; F @ Nom Voltage(Max)(Mhz): 125; Rating: Military; Technology Family: AS; Output Drive (IOL/IOH)(Max)(mA): 20/-2; tpd @ Nom Voltage(Max)(ns): 22; DatasheetVersion: SDAS115C; PackageReference: JT0024A; Function: Counter; Operating Temperature Range(C): -55 to 125; Type: Binary; Code_JEDEC: MO-058 AA; ComponentLink1Description: Manufacturer URL; ComponentLink1URL: http://www.ti.com/; ComponentLink2Description: Datasheet; ComponentLink2URL: http://www.ti.com/lit/ds/symlink/sn54as867.pdf; ComponentLink3Description: Package Specification; ComponentLink3URL: http://www.ti.com/lit/ml/mcer004a/mcer004a.pdf
footprint JT0024A (DIP, 24-Leads, Body 7.2x32.5mm, Pitch 2.54mm)
pins: 1 S0 (in), 2 S1 (in), 3 A (in), 4 B (in), 5 C (in), 6 D (in), 7 E (in), 8 F (in), 9 G (in), 10 H (in), 11 ~{ENT} (in), 12 GND (power), 13 ~{RCO} (out), 14 CLK (in), 15 QH (out), 16 QG (out), 17 QF (out), 18 QE (out), 19 QD (out), 20 QC (out), 21 QB (out), 22 QA (out), 23 ~{ENP} (in), 24 VCC (power)

## SN54AS869JT
designator U?
Synchronous 8-Bit Up/Down Counters, JT0024A, TUBE; Generic Part Number: SN54AS869; Manufacturer: Texas Instruments; PartNumber: SN54AS869JT; VCC(Min)(V): 4.5; VCC(Max)(V): 5.5; Inputs: 1; ICC @ Nom Voltage(Max)(mA): 195; Bits(#): 8; F @ Nom Voltage(Max)(Mhz): 125; Rating: Military; Technology Family: AS; Output Drive (IOL/IOH)(Max)(mA): 20/-2; tpd @ Nom Voltage(Max)(ns): 35; DatasheetVersion: SDAS115C; PackageReference: JT0024A; Function: Counter; Operating Temperature Range(C): -55 to 125; Type: Binary; Code_JEDEC: MO-058 AA; ComponentLink1Description: Manufacturer URL; ComponentLink1URL: http://www.ti.com/; ComponentLink2Description: Datasheet; ComponentLink2URL: http://www.ti.com/lit/ds/symlink/sn54as869.pdf; ComponentLink3Description: Package Specification; ComponentLink3URL: http://www.ti.com/lit/ml/mcer004a/mcer004a.pdf
footprint JT0024A (DIP, 24-Leads, Body 7.2x32.5mm, Pitch 2.54mm)
pins: 1 S0 (in), 2 S1 (in), 3 A (in), 4 B (in), 5 C (in), 6 D (in), 7 E (in), 8 F (in), 9 G (in), 10 H (in), 11 ~{ENT} (in), 12 GND (power), 13 ~{RCO} (out), 14 CLK (in), 15 QH (out), 16 QG (out), 17 QF (out), 18 QE (out), 19 QD (out), 20 QC (out), 21 QB (out), 22 QA (out), 23 ~{ENP} (in), 24 VCC (power)

## SN54AS885JT
designator U?
8-Bit Magnitude Comparators, JT0024A, TUBE; Generic Part Number: SN54AS885; Manufacturer: Texas Instruments; PartNumber: SN54AS885JT; VCC(Min)(V): 4.5; VCC(Max)(V): 5.5; Output Type: TTL; ICC @ Nom Voltage(Max)(mA): 210; Bits(#): 8; Rating: Military; Technology Family: AS; Output Drive (IOL/IOH)(Max)(mA): 20/-2; tpd @ Nom Voltage(Max)(ns): 17.5; DatasheetVersion: SDAS236A; PackageReference: JT0024A; Input Type: TTL; Operating Temperature Range(C): -55 to 125; ComponentLink1Description: Manufacturer URL; ComponentLink1URL: http://www.ti.com/; ComponentLink2Description: Datasheet; ComponentLink2URL: http://www.ti.com/lit/ds/symlink/sn54as885.pdf
footprint JT0024A (DIP, 24-Leads, Body 7.2x32.5mm, Pitch 2.54mm)
pins: 1 L/~{A} (in), 2 P<QIN (in), 3 P>QIN (in), 4 Q7 (in), 5 Q6 (in), 6 Q5 (in), 7 Q4 (in), 8 Q3 (in), 9 Q2 (in), 10 Q1 (in), 11 Q0 (in), 12 GND (power), 13 P>QOUT (out), 14 P<QOUT (out), 15 P0 (in), 16 P1 (in), 17 P2 (in), 18 P3 (in), 19 P4 (in), 20 P5 (in), 21 P6 (in), 22 P7 (in), 23 PLE (in), 24 VCC (power)

## SN54F138J
designator U?
3-Line To 8-Line Decoders/Demultiplexers, J0016A, TUBE; Generic Part Number: SN54F138; Manufacturer: Texas Instruments; PartNumber: SN54F138J; VCC(Min)(V): 4.5; VCC(Max)(V): 5.5; Rating: Military; Technology Family: F; Schmitt Trigger: No; DatasheetVersion: SDFS051B; PackageReference: J0016A; Operating Temperature Range(C): -55 to 125; ComponentLink1Description: Manufacturer URL; ComponentLink1URL: http://www.ti.com/; ComponentLink2Description: Datasheet; ComponentLink2URL: http://www.ti.com/lit/ds/symlink/sn54f138.pdf; ComponentLink3Description: Package Specification; ComponentLink3URL: http://www.ti.com/lit/ml/mcer002d/mcer002d.pdf
footprint J0016A (DIP, 16-Leads, Body 21.35x7.2mm, Pitch 2.54mm)
pins: 1 A (in), 2 B (in), 3 C (in), 4 ~{G}2A (in), 5 ~{G}2B (in), 6 G1 (in), 7 ~{Y7} (out), 8 GND (power), 9 ~{Y6} (out), 10 ~{Y5} (out), 11 ~{Y4} (out), 12 ~{Y3} (out), 13 ~{Y2} (out), 14 ~{Y1} (out), 15 ~{Y0} (out), 16 VCC (power)

## SN54F153J
designator U?
Dual 1-Of-4 Data Selectors/Multiplexers, J0016A, TUBE; Generic Part Number: SN54F153; Manufacturer: Texas Instruments; PartNumber: SN54F153J; VCC(Min)(V): 4.5; VCC(Max)(V): 5.5; Rating: Military; Technology Family: F; Schmitt Trigger: No; DatasheetVersion: SDFS052A; PackageReference: J0016A; Operating Temperature Range(C): -55 to 125; ComponentLink1Description: Manufacturer URL; ComponentLink1URL: http://www.ti.com/; ComponentLink2Description: Datasheet; ComponentLink2URL: http://www.ti.com/lit/ds/symlink/sn54f153.pdf; ComponentLink3Description: Package Specification; ComponentLink3URL: http://www.ti.com/lit/ml/mcer002d/mcer002d.pdf
footprint J0016A (DIP, 16-Leads, Body 21.35x7.2mm, Pitch 2.54mm)
pins: 1 1~{G} (in), 2 B (in), 3 1C3 (in), 4 1C2 (in), 5 1C1 (in), 6 1C0 (in), 7 1Y (out), 8 GND (power), 9 2Y (out), 10 2C0 (in), 11 2C1 (in), 12 2C2 (in), 13 2C3 (in), 14 A (in), 15 2~{G} (in), 16 VCC (power)

## SN54F283J
designator U?
4-Bit Binary Full Adders With Fast Carry, J0016A, TUBE; Generic Part Number: SN54F283; Manufacturer: Texas Instruments; PartNumber: SN54F283J; VCC(Min)(V): 4.5; VCC(Max)(V): 5.5; Inputs: 9; Function: Arithmetic; ICC @ Nom Voltage(Max)(mA): 55; Bits(#): 4; F @ Nom Voltage(Max)(Mhz): 70; Rating: Military; Technology Family: F; Output Drive (IOL/IOH)(Max)(mA): 20/-1; tpd @ Nom Voltage(Max)(ns): 10.5; DatasheetVersion: SDFS069A; PackageReference: J0016A; Operating Temperature Range(C): -55 to 125; Type: Binary; ComponentLink1Description: Manufacturer URL; ComponentLink1URL: http://www.ti.com/; ComponentLink2Description: Datasheet; ComponentLink2URL: http://www.ti.com/lit/ds/symlink/sn54f283.pdf; ComponentLink3Description: Package Specification; ComponentLink3URL: http://www.ti.com/lit/ml/mcer002d/mcer002d.pdf
footprint J0016A (DIP, 16-Leads, Body 21.35x7.2mm, Pitch 2.54mm)
pins: 1 Σ2 (out), 2 B2 (in), 3 A2 (in), 4 Σ1 (out), 5 A1 (in), 6 B1 (in), 7 C0 (in), 8 GND (power), 9 C4 (out), 10 Σ4 (out), 11 B4 (in), 12 A4 (in), 13 Σ3 (out), 14 A3 (in), 15 B3 (in), 16 VCC (power)

## SN54F521J
designator U?
8-Bit Identity/Magnitude Comparators (P=Q) with Enable, J0020A, TUBE; Generic Part Number: SN54F521; Manufacturer: Texas Instruments; PartNumber: SN54F521J; VCC(Min)(V): 4.5; VCC(Max)(V): 5.5; Output Type: TTL; ICC @ Nom Voltage(Max)(mA): 32; Bits(#): 8; Rating: Military; Technology Family: F; Output Drive (IOL/IOH)(Max)(mA): 20/-1; tpd @ Nom Voltage(Max)(ns): 11; DatasheetVersion: SDFS091; PackageReference: J0020A; Input Type: TTL; Operating Temperature Range(C): -55 to 125; ComponentLink1Description: Manufacturer URL; ComponentLink1URL: http://www.ti.com/; ComponentLink2Description: Datasheet; ComponentLink2URL: http://www.ti.com/lit/ds/symlink/sn54f521.pdf
footprint J0020A (DIP, 20-Leads, Body 26.9x7.2mm, Pitch 2.54mm)
pins: 1 ~{OE} (in), 2 P0 (in), 3 Q0 (in), 4 P1 (in), 5 Q1 (in), 6 P2 (in), 7 Q2 (in), 8 P3 (in), 9 Q3 (in), 10 GND (power), 11 P4 (in), 12 Q4 (in), 13 P5 (in), 14 Q5 (in), 15 P6 (in), 16 Q6 (in), 17 P7 (in), 18 Q7 (in), 19 ~{P=Q} (out), 20 VCC (power)

## SN54HC42J
designator U?
4-Line To 10-Line Decoders  BCD To Decimal, J0016A, TUBE; Generic Part Number: SN54HC42; Manufacturer: Texas Instruments; PartNumber: SN54HC42J; VCC(Min)(V): 2; VCC(Max)(V): 6; Rating: Military; Technology Family: HC; Schmitt Trigger: No; DatasheetVersion: SCLS091D; PackageReference: J0016A; Operating Temperature Range(C): -55 to 125; ComponentLink1Description: Manufacturer URL; ComponentLink1URL: http://www.ti.com/; ComponentLink2Description: Datasheet; ComponentLink2URL: http://www.ti.com/lit/ds/symlink/sn54hc42.pdf; ComponentLink3Description: Package Specification; ComponentLink3URL: http://www.ti.com/lit/ml/mcer002d/mcer002d.pdf
footprint J0016A (DIP, 16-Leads, Body 21.35x7.2mm, Pitch 2.54mm)
pins: 1 ~{0} (out), 2 ~{1} (out), 3 ~{2} (out), 4 ~{3} (out), 5 ~{4} (out), 6 ~{5} (out), 7 ~{6} (out), 8 GND (power), 9 ~{7} (out), 10 ~{8} (out), 11 ~{9} (out), 12 D (in), 13 C (in), 14 B (in), 15 A (in), 16 VCC (power)

## SN54HC138J
designator U?
3-Line To 8-Line Decoders/Demultiplexers, J0016A, TUBE; Generic Part Number: SN54HC138; Manufacturer: Texas Instruments; PartNumber: SN54HC138J; VCC(Min)(V): 2; VCC(Max)(V): 6; Rating: Military; Technology Family: HC; Schmitt Trigger: No; DatasheetVersion: SCLS107E; PackageReference: J0016A; Operating Temperature Range(C): -55 to 125; ComponentLink1Description: Manufacturer URL; ComponentLink1URL: http://www.ti.com/; ComponentLink2Description: Datasheet; ComponentLink2URL: http://www.ti.com/lit/ds/symlink/sn54hc138.pdf; ComponentLink3Description: Package Specification; ComponentLink3URL: http://www.ti.com/lit/ml/mcer002d/mcer002d.pdf
footprint J0016A (DIP, 16-Leads, Body 21.35x7.2mm, Pitch 2.54mm)
pins: 1 A (in), 2 B (in), 3 C (in), 4 ~{G}2A (in), 5 ~{G}2B (in), 6 G1 (in), 7 ~{Y7} (out), 8 GND (power), 9 ~{Y6} (out), 10 ~{Y5} (out), 11 ~{Y4} (out), 12 ~{Y3} (out), 13 ~{Y2} (out), 14 ~{Y1} (out), 15 ~{Y0} (out), 16 VCC (power)

## SN54HC139J
designator U?
Dual 2-Line To 4-Line Decoders/Demultiplexers, J0016A, TUBE; Generic Part Number: SN54HC139; Manufacturer: Texas Instruments; PartNumber: SN54HC139J; VCC(Min)(V): 2; VCC(Max)(V): 6; Rating: Military; Technology Family: HC; Schmitt Trigger: No; DatasheetVersion: SCLS108D; PackageReference: J0016A; Operating Temperature Range(C): -55 to 125; ComponentLink1Description: Manufacturer URL; ComponentLink1URL: http://www.ti.com/; ComponentLink2Description: Datasheet; ComponentLink2URL: http://www.ti.com/lit/ds/symlink/sn54hc139.pdf; ComponentLink3Description: Package Specification; ComponentLink3URL: http://www.ti.com/lit/ml/mcer002d/mcer002d.pdf
footprint J0016A (DIP, 16-Leads, Body 21.35x7.2mm, Pitch 2.54mm)
part A pins: 1 1~{G} (in), 2 1A (in), 3 1B (in), 4 1Y0 (out), 5 1Y1 (out), 6 1Y2 (out), 7 1Y3 (out)
part B pins: 9 2Y3 (out), 10 2Y2 (out), 11 2Y1 (out), 12 2Y0 (out), 13 2B (in), 14 2A (in), 15 2~{G} (in)
part C pins: 8 GND (power), 16 VCC (power)

## SN54HC148J
designator U?
8-Line To 3-Line Priority Encoders, J0016A, TUBE; Generic Part Number: SN54HC148; Manufacturer: Texas Instruments; PartNumber: SN54HC148J; VCC(Min)(V): 2; VCC(Max)(V): 6; Rating: Military; Technology Family: HC; Schmitt Trigger: No; DatasheetVersion: SCLS109G; PackageReference: J0016A; Operating Temperature Range(C): -55 to 125; ComponentLink1Description: Manufacturer URL; ComponentLink1URL: http://www.ti.com/; ComponentLink2Description: Datasheet; ComponentLink2URL: http://www.ti.com/lit/ds/symlink/sn54hc148.pdf; ComponentLink3Description: Package Specification; ComponentLink3URL: http://www.ti.com/lit/ml/mcer002d/mcer002d.pdf
footprint J0016A (DIP, 16-Leads, Body 21.35x7.2mm, Pitch 2.54mm)
pins: 1 4 (in), 2 5 (in), 3 6 (in), 4 7 (in), 5 EI (in), 6 ~{A2} (out), 7 ~{A1} (out), 8 GND (power), 9 ~{A0} (out), 10 0 (in), 11 1 (in), 12 2 (in), 13 3 (in), 14 ~{GS} (out), 15 EO (out), 16 VCC (power)

## SN54HC151J
designator U?
8-Line To 1-Line Data Selectors/Multiplexers, J0016A, TUBE; Generic Part Number: SN54HC151; Manufacturer: Texas Instruments; PartNumber: SN54HC151J; VCC(Min)(V): 2; VCC(Max)(V): 6; Rating: Military; Technology Family: HC; Schmitt Trigger: No; DatasheetVersion: SCLS110E; PackageReference: J0016A; Operating Temperature Range(C): -55 to 125; ComponentLink1Description: Manufacturer URL; ComponentLink1URL: http://www.ti.com/; ComponentLink2Description: Datasheet; ComponentLink2URL: http://www.ti.com/lit/ds/symlink/sn54hc151.pdf; ComponentLink3Description: Package Specification; ComponentLink3URL: http://www.ti.com/lit/ml/mcer002d/mcer002d.pdf
footprint J0016A (DIP, 16-Leads, Body 21.35x7.2mm, Pitch 2.54mm)
pins: 1 D3 (in), 2 D2 (in), 3 D1 (in), 4 D0 (in), 5 Y (out), 6 ~{W} (out), 7 ~{G} (in), 8 GND (power), 9 C (in), 10 B (in), 11 A (in), 12 D7 (in), 13 D6 (in), 14 D5 (in), 15 D4 (in), 16 VCC (power)

## SN54HC153J
designator U?
Dual 4-Line To 1-Line Data Selectors/Multiplexers, J0016A, TUBE; Generic Part Number: SN54HC153; Manufacturer: Texas Instruments; PartNumber: SN54HC153J; VCC(Min)(V): 2; VCC(Max)(V): 6; Rating: Military; Technology Family: HC; Schmitt Trigger: No; DatasheetVersion: SCLS112D; PackageReference: J0016A; Operating Temperature Range(C): -55 to 125; ComponentLink1Description: Manufacturer URL; ComponentLink1URL: http://www.ti.com/; ComponentLink2Description: Datasheet; ComponentLink2URL: http://www.ti.com/lit/ds/symlink/sn54hc153.pdf; ComponentLink3Description: Package Specification; ComponentLink3URL: http://www.ti.com/lit/ml/mcer002d/mcer002d.pdf
footprint J0016A (DIP, 16-Leads, Body 21.35x7.2mm, Pitch 2.54mm)
pins: 1 1~{G} (in), 2 B (in), 3 1C3 (in), 4 1C2 (in), 5 1C1 (in), 6 1C0 (in), 7 1Y (out), 8 GND (power), 9 2Y (out), 10 2C0 (in), 11 2C1 (in), 12 2C2 (in), 13 2C3 (in), 14 A (in), 15 2~{G} (in), 16 VCC (power)

## SN54HC157J
designator U?
Quadruple 2-Line To 1-Line Data Selectors/Multiplexers, J0016A, TUBE; Generic Part Number: SN54HC157; Manufacturer: Texas Instruments; PartNumber: SN54HC157J; VCC(Min)(V): 2; VCC(Max)(V): 6; Rating: Military; Technology Family: HC; Schmitt Trigger: No; DatasheetVersion: SCLS113D; PackageReference: J0016A; Operating Temperature Range(C): -55 to 125; ComponentLink1Description: Manufacturer URL; ComponentLink1URL: http://www.ti.com/; ComponentLink2Description: Datasheet; ComponentLink2URL: http://www.ti.com/lit/ds/symlink/sn54hc157.pdf; ComponentLink3Description: Package Specification; ComponentLink3URL: http://www.ti.com/lit/ml/mcer002d/mcer002d.pdf
footprint J0016A (DIP, 16-Leads, Body 21.35x7.2mm, Pitch 2.54mm)
pins: 1 ~{A}/B (in), 2 1A (in), 3 1B (in), 4 1Y (out), 5 2A (in), 6 2B (in), 7 2Y (out), 8 GND (power), 9 3Y (out), 10 3B (in), 11 3A (in), 12 4Y (out), 13 4B (in), 14 4A (in), 15 ~{G} (in), 16 VCC (power)

## SN54HC161J
designator U?
Synchronous 4-Bit Binary Counters, J0016A, TUBE; Generic Part Number: SN54HC161; Manufacturer: Texas Instruments; PartNumber: SN54HC161J; VCC(Min)(V): 2; VCC(Max)(V): 6; Inputs: 1; ICC @ Nom Voltage(Max)(mA): 0.08; Bits(#): 4; F @ Nom Voltage(Max)(Mhz): 28; Rating: Military; Technology Family: HC; Output Drive (IOL/IOH)(Max)(mA): 5.2/-5.2; tpd @ Nom Voltage(Max)(ns): 46; DatasheetVersion: SCLS297D; PackageReference: J0016A; Function: Counter; Operating Temperature Range(C): -55 to 125; Type: Binary; ComponentLink1Description: Manufacturer URL; ComponentLink1URL: http://www.ti.com/; ComponentLink2Description: Datasheet; ComponentLink2URL: http://www.ti.com/lit/ds/symlink/sn54hc161.pdf; ComponentLink3Description: Package Specification; ComponentLink3URL: http://www.ti.com/lit/ml/mcer002d/mcer002d.pdf
footprint J0016A (DIP, 16-Leads, Body 21.35x7.2mm, Pitch 2.54mm)
pins: 1 ~{CLR} (in), 2 CLK (in), 3 A (in), 4 B (in), 5 C (in), 6 D (in), 7 ENP (in), 8 GND (power), 9 ~{LOAD} (in), 10 ENT (in), 11 QD (out), 12 QC (out), 13 QB (out), 14 QA (out), 15 RCO (out), 16 VCC (power)

## SN54HC163J
designator U?
Synchronous 4-Bit Binary Counters, J0016A, TUBE; Generic Part Number: SN54HC163; Manufacturer: Texas Instruments; PartNumber: SN54HC163J; VCC(Min)(V): 2; VCC(Max)(V): 6; Inputs: 1; ICC @ Nom Voltage(Max)(mA): 0.08; Bits(#): 4; F @ Nom Voltage(Max)(Mhz): 28; Rating: Military; Technology Family: HC; Output Drive (IOL/IOH)(Max)(mA): 5.2/-5.2; tpd @ Nom Voltage(Max)(ns): 46; DatasheetVersion: SCLS298D; PackageReference: J0016A; Function: Counter; Operating Temperature Range(C): -55 to 125; Type: Binary; ComponentLink1Description: Manufacturer URL; ComponentLink1URL: http://www.ti.com/; ComponentLink2Description: Datasheet; ComponentLink2URL: http://www.ti.com/lit/ds/symlink/sn54hc163.pdf; ComponentLink3Description: Package Specification; ComponentLink3URL: http://www.ti.com/lit/ml/mcer002d/mcer002d.pdf
footprint J0016A (DIP, 16-Leads, Body 21.35x7.2mm, Pitch 2.54mm)
pins: 1 ~{CLR} (in), 2 CLK (in), 3 A (in), 4 B (in), 5 C (in), 6 D (in), 7 ENP (in), 8 GND (power), 9 ~{LOAD} (in), 10 ENT (in), 11 QD (out), 12 QC (out), 13 QB (out), 14 QA (out), 15 RCO (out), 16 VCC (power)

## SN54HC191J
designator U?
Synchronous 4-Bit Up/Down Binary Counters, J0016A, TUBE; Generic Part Number: SN54HC191; Manufacturer: Texas Instruments; PartNumber: SN54HC191J; VCC(Min)(V): 2; VCC(Max)(V): 6; Inputs: 1; ICC @ Nom Voltage(Max)(mA): 0.08; Bits(#): 4; F @ Nom Voltage(Max)(Mhz): 28; Rating: Military; Technology Family: HC; Output Drive (IOL/IOH)(Max)(mA): 5.2/-5.2; tpd @ Nom Voltage(Max)(ns): 41; DatasheetVersion: SCLS121D; PackageReference: J0016A; Function: Counter; Operating Temperature Range(C): -55 to 125; Type: Binary; ComponentLink1Description: Manufacturer URL; ComponentLink1URL: http://www.ti.com/; ComponentLink2Description: Datasheet; ComponentLink2URL: http://www.ti.com/lit/ds/symlink/sn54hc191.pdf; ComponentLink3Description: Package Specification; ComponentLink3URL: http://www.ti.com/lit/ml/mcer002d/mcer002d.pdf
footprint J0016A (DIP, 16-Leads, Body 21.35x7.2mm, Pitch 2.54mm)
pins: 1 B (in), 2 QB (out), 3 QA (out), 4 ~{CTEN} (in), 5 D/~{U} (in), 6 QC (out), 7 QD (out), 8 GND (power), 9 D (in), 10 C (in), 11 ~{LOAD} (in), 12 MAX/MIN (out), 13 ~{RCO} (out), 14 CLK (in), 15 A (in), 16 VCC (power)

## SN54HC193J
designator U?
Synchronous 4-Bit Up/Down Binary Counters With Dual Clock And Clear, J0016A, TUBE; Generic Part Number: SN54HC193; Manufacturer: Texas Instruments; PartNumber: SN54HC193J; VCC(Min)(V): 2; VCC(Max)(V): 6; Inputs: 1; ICC @ Nom Voltage(Max)(mA): 0.08; Bits(#): 4; F @ Nom Voltage(Max)(Mhz): 28; Rating: Military; Technology Family: HC; Output Drive (IOL/IOH)(Max)(mA): 5.2/-5.2; tpd @ Nom Voltage(Max)(ns): 55; DatasheetVersion: SCLS122D; PackageReference: J0016A; Function: Counter; Operating Temperature Range(C): -55 to 125; Type: Binary; ComponentLink1Description: Manufacturer URL; ComponentLink1URL: http://www.ti.com/; ComponentLink2Description: Datasheet; ComponentLink2URL: http://www.ti.com/lit/ds/symlink/sn54hc193.pdf; ComponentLink3Description: Package Specification; ComponentLink3URL: http://www.ti.com/lit/ml/mcer002d/mcer002d.pdf
footprint J0016A (DIP, 16-Leads, Body 21.35x7.2mm, Pitch 2.54mm)
pins: 1 B (in), 2 QB (out), 3 QA (out), 4 DOWN (in), 5 UP (in), 6 QC (out), 7 QD (out), 8 GND (power), 9 D (in), 10 C (in), 11 ~{LOAD} (in), 12 ~{CO} (out), 13 ~{BO} (out), 14 CLR (in), 15 A (in), 16 VCC (power)

## SN54HC251J
designator U?
Data Selectors/Multiplexers With 3-State Outputs, J0016A, TUBE; Generic Part Number: SN54HC251; Manufacturer: Texas Instruments; PartNumber: SN54HC251J; VCC(Min)(V): 2; VCC(Max)(V): 6; Rating: Military; Technology Family: HC; Schmitt Trigger: No; DatasheetVersion: SCLS132E; PackageReference: J0016A; Operating Temperature Range(C): -55 to 125; ComponentLink1Description: Manufacturer URL; ComponentLink1URL: http://www.ti.com/; ComponentLink2Description: Datasheet; ComponentLink2URL: http://www.ti.com/lit/ds/symlink/sn54hc251.pdf; ComponentLink3Description: Package Specification; ComponentLink3URL: http://www.ti.com/lit/ml/mcer002d/mcer002d.pdf
footprint J0016A (DIP, 16-Leads, Body 21.35x7.2mm, Pitch 2.54mm)
pins: 1 D3 (in), 2 D2 (in), 3 D1 (in), 4 D0 (in), 5 Y (hiz), 6 ~{W} (hiz), 7 ~{OE} (in), 8 GND (power), 9 C (in), 10 B (in), 11 A (in), 12 D7 (in), 13 D6 (in), 14 D5 (in), 15 D4 (in), 16 VCC (power)